# EAGLE library part PIN_HEADER_36 (library connectors)
Pin header 36 pins alternative 2 rows 2.54mm spacing
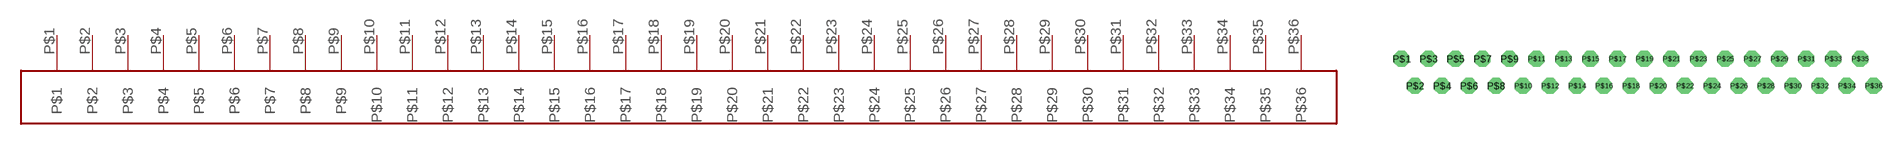
[diagram p1: symbol with the pads of PIN_HEADER_36; footprint PIN_HEADER_36]

Designator prefix J

## PIN_HEADER_36  [PIN_HEADER_36]
P$1  P$1
P$2  P$2
P$3  P$3
P$4  P$4
P$5  P$5
P$6  P$6
P$7  P$7
P$8  P$8
P$9  P$9
P$10  P$10
P$11  P$11
P$12  P$12
P$13  P$13
P$14  P$14
P$15  P$15
P$16  P$16
P$17  P$17
P$18  P$18
P$19  P$19
P$20  P$20
P$21  P$21
P$22  P$22
P$23  P$23
P$24  P$24
P$25  P$25
P$26  P$26
P$27  P$27
P$28  P$28
P$29  P$29
P$30  P$30
P$31  P$31
P$32  P$32
P$33  P$33
P$34  P$34
P$35  P$35
P$36  P$36

## Footprint PIN_HEADER_36 (pad centres in mm)
drill 1 octagon: P$1 0,0; P$2 1.27,-2.54; P$3 2.54,0; P$4 3.81,-2.54; P$5 5.08,0; P$6 6.35,-2.54; P$7 7.62,0; P$8 8.89,-2.54; P$9 10.16,0; P$10 11.43,-2.54; P$11 12.7,0; P$12 13.97,-2.54; P$13 15.24,0; P$14 16.51,-2.54; P$15 17.78,0; P$16 19.05,-2.54; P$17 20.32,0; P$18 21.59,-2.54; P$19 22.86,0; P$20 24.13,-2.54; P$21 25.4,0; P$22 26.67,-2.54; P$23 27.94,0; P$24 29.21,-2.54; P$25 30.48,0; P$26 31.75,-2.54; P$27 33.02,0; P$28 34.29,-2.54; P$29 35.56,0; P$30 36.83,-2.54; P$31 38.1,0; P$32 39.37,-2.54; P$33 40.64,0; P$34 41.91,-2.54; P$35 43.18,0; P$36 44.45,-2.54